# Altium footprint library vitech_semiconductors.PcbLib: 7 footprints
Each footprint in its own frame and in the unit in brackets; x right, y up, seen from the top. Pads: shape width x height; smd on the part's side, far side on the other; paste and mask are expansions set on the pad; w line width, h text height; cw(c..) or ccw(c..) is an arc to the next point about the centre after c.
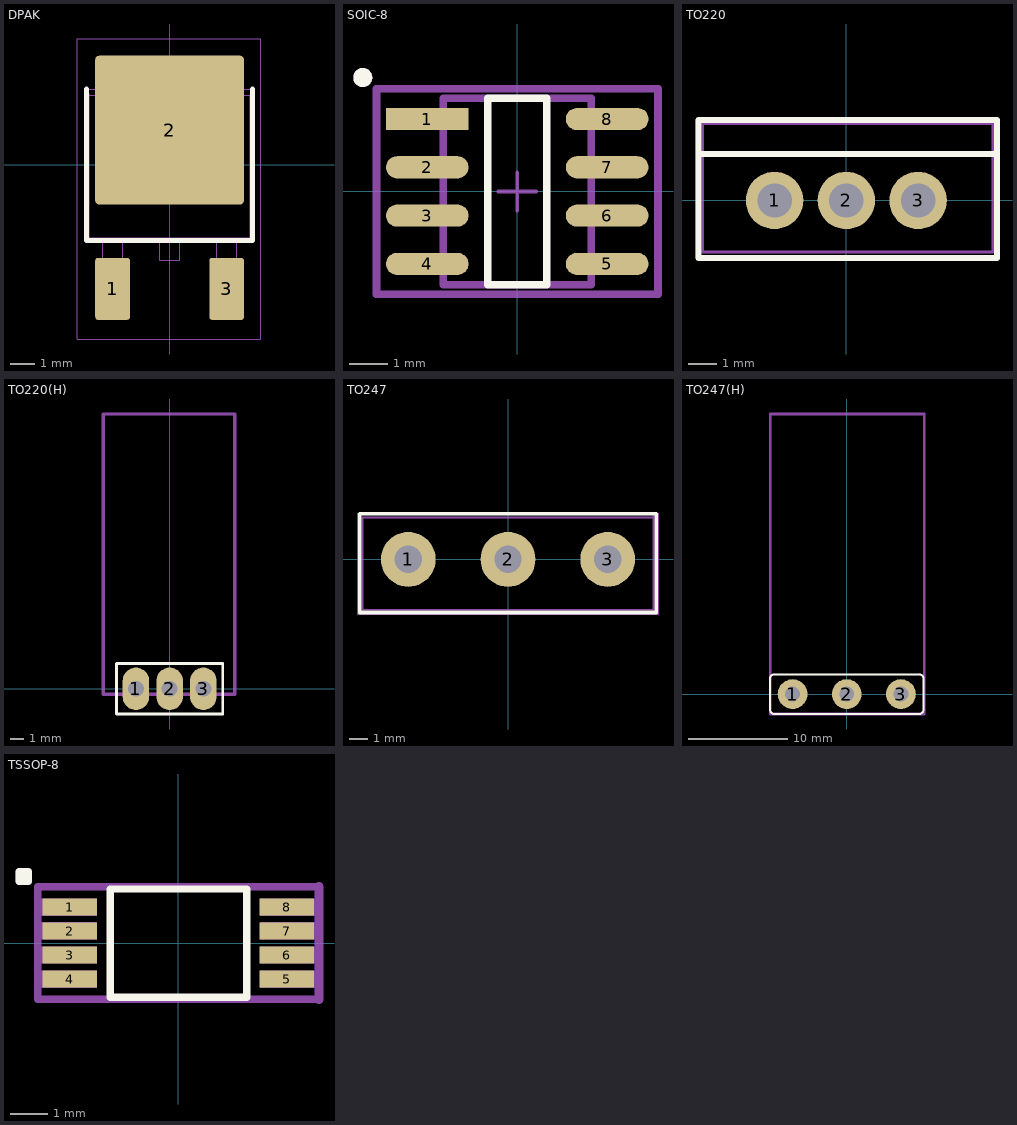
[diagram p0: the footprints below, top view; thin cyan lines are the x and y axes]

## DPAK [mm]
pads (3):
  rrect15% 1.4x2.5 smd mask+0.05: 1(-2.3,-5) 3(2.3,-5)
  rrect5% 6x6 smd paste-2539.97 mask+0.05: 2(0,1.4)
Top Overlay:
  lines w0.2: -3.35,3.05 -3.35,-3.05 3.35,-3.05 3.35,3.05
Top Paste:
  rectangle: 1.575,-1.4 2.725,0.1
  rectangle: 1.575,0.45 2.725,2.35
  rectangle: 0.125,-1.4 1.275,0.1
  rectangle: 0.125,0.45 1.275,2.35
  rectangle: -1.275,-1.4 -0.125,0.1
  rectangle: -1.275,0.45 -0.125,2.35
  rectangle: -2.725,-1.4 -1.575,0.1
  rectangle: -2.725,0.45 -1.575,2.35
  rectangle: 1.575,2.7 2.725,4.2
  rectangle: 0.125,2.7 1.275,4.2
  rectangle: -1.275,2.7 -0.125,4.2
  rectangle: -2.725,2.7 -1.575,4.2
Assembly:
  lines w0.05: -2.7,-3.05 -2.7,-4.25 -2.8,-4.25 -2.8,-5.15 -2.7,-5.15 -2.7,-5.95 -1.9,-5.95 -1.9,-5.15 -1.8,-5.15 -1.8,-4.25 -1.9,-4.25 -1.9,-3.05 ; -2.6,3.05 -2.6,3.4 -2.35,4.2 2.35,4.2 2.6,3.4 2.6,3.05 ; -0.4,-3.05 -0.4,-3.85 0.4,-3.85 0.4,-3.05 ; 1.9,-3.05 1.9,-4.25 1.8,-4.25 1.8,-5.15 1.9,-5.15 1.9,-5.95 2.7,-5.95 2.7,-5.15 2.8,-5.15 2.8,-4.25 2.7,-4.25 2.7,-3.05 ; -3.35,-3.05 -3.25,-2.95 ; -3.35,-3.05 3.35,-3.05 ; -3.35,-3.05 -3.35,3.05 ; -3.35,3.05 -3.25,2.8 ; -3.35,3.05 3.35,3.05 ; -3.25,-2.95 3.25,-2.95 ; -3.25,-2.95 -3.25,2.8 ; -3.25,2.8 3.25,2.8 ; 3.25,-2.95 3.35,-3.05 ; 3.25,-2.95 3.25,2.8 ; 3.25,2.8 3.35,3.05 ; 3.35,-3.05 3.35,3.05
  text "1" at -2.4,-2.6 h0.7
  text "3" at 2.05,-2.6 h0.7
  text "4" at -0.25,1.85 h0.7
Top Assembly:
  text ".Designator" at -1.652,5.5 h0.5
Mechanical 15:
  lines w0.05: -3.725,-7.025 3.675,-7.025 3.675,5.075 -3.725,5.075 -3.725,-7.025
  lines w0.1: -0.5,0 0.5,0 ; 0,-0.5 0,0.5
Mechanical 19:
  text ".Comment" at -1.621,6.338 h0.5
3D body "D-PAK.STEP": height 2.39, standoff 0, extent -3.365,-6.03 3.365,4.38

## SOIC-8 [mm]
pads (8):
  rect 2.174x0.583 smd paste+0 mask+0: 1(-2.366,1.905)
  rrect100% 2.174x0.583 smd paste+0 mask+0: 2(-2.366,0.635) 3(-2.366,-0.635) 4(-2.366,-1.905) 5(2.366,-1.905) 6(2.366,-0.635) 7(2.366,0.635) 8(2.366,1.905)
Top Overlay:
  circle w0.25: c-4.064,2.997 r0.125
  lines w0.2: -0.779,-2.45 -0.779,2.45 0.779,2.45 0.779,-2.45 -0.779,-2.45
Assembly:
  circle w0.25: c-4.064,2.997 r0.125
  lines w0.2: -3.703,-2.7 -3.703,2.7 3.703,2.7 3.703,-2.7 -3.703,-2.7 ; -1.95,-2.45 1.95,-2.45 1.95,2.45 -1.95,2.45 -1.95,-2.45
Top Assembly (Mech6):
  lines w0.2: -3.703,-2.7 -3.703,2.7 3.703,2.7 3.703,-2.7 -3.703,-2.7
Top Component Center:
  lines w0.1: -0.5,0 0.5,0 ; 0,-0.5 0,0.5
Mechanical 17:
  text ".Designator" at -1.943,3.987 h0.5
Mechanical 19:
  text ".Comment" at -1.937,3.301 h0.5
3D body "Trans_Infineon_Technologies_IRF9358PBF_eec.STEP": height 0.25, standoff 0, extent -3.703,-2.7 3.703,2.7

## TO220 [mm]
height 22
pads (3):
  round 2 hole 1.2: 1(-2.5,0) 2(0,0) 3(2.5,0)
Top Overlay:
  lines w0.2: -5.15,1.619 5.247,1.619 ; -5.15,-2 5.247,-2 5.247,2.8 -5.15,2.8 -5.15,-2
Assembly:
  lines w0.1: -5,1.6 5.1,1.6 ; -5.2,-2 5.247,-2 5.247,2.8 -5.2,2.8 -5.2,-2 ; -5,-1.8 -5,2.675 5.1,2.675 5.1,-1.8 -5,-1.8
Mechanical 15:
  lines w0.1: -0.5,0 0.5,0 ; 0,-0.5 0,0.5
Mechanical 17:
  text ".Designator" at -1.866,3.938 h0.5
Mechanical 19:
  text ".Comment" at -1.866,3.288 h0.5
3D body "User Library-TO-220-4.STEP": height 22.06, standoff -6.74, extent -5,-1.8 5.2,2.7

## TO220(H) [mm]
height 22
pads (3):
  oval 2x3.2 hole 1.2: 1(-2.54,0) 2(0,0) 3(2.54,0)
Top Overlay:
  lines w0.2: -4,-1.9 -4,1.9 4,1.9 4,-1.9 -4,-1.9
Assembly:
  lines w0.254: -5,-0.4 4.9,-0.4 4.9,20.7 -5,20.7 -5,-0.4
Mechanical 15:
  lines w0.1: -0.5,0 0.5,0 ; 0,-0.5 0,0.5
Mechanical 17:
  text ".Designator" at -1.766,21.838 h0.5
Mechanical 19:
  text ".Comment" at -1.766,21.188 h0.5
3D body "TO-220-90.STEP": height 2.76, standoff -7.91, extent -4.95,-0.365 4.95,20.665

## TO247 [mm] "3-Lead Plastic TO-247"
height 20
pads (3):
  round 3 hole 1.5: 1(-5.45,0) 2(0,0) 3(5.45,0)
Top Overlay:
  lines w0.2: -8.1,-2.9 8.1,-2.9 8.1,2.5 -8.1,2.5 -8.1,-2.9
Assembly:
  lines w0.1: -7.95,2.3 -7.95,-2.75 7.95,-2.75 7.95,2.35 7.9,2.3 -7.95,2.3 ; -7.95,2.3 -7.95,2.3
Mechanical 15:
  lines w0.1: -8.2,-3 -8.2,2.5 8.2,2.5 8.2,-3 -8.2,-3 ; -0.5,0 0.5,0 -0.5,0 ; 0,-0.5 0,0.5 0,-0.5
Mechanical 17:
  text ".Designator" at -1.466,3.438 h0.5
Mechanical 19:
  text ".Comment" at -1.466,2.788 h0.5
3D body "TO247_3_21.STEP": height 26.95, standoff -2.47, extent -7.95,-2.75 7.95,2.35

## TO247(H) [mm] "3-Lead Plastic TO-247"
height 20
pads (3):
  round 3 hole 1.5: 1(-5.45,0) 2(0,0) 3(5.45,0)
Top Overlay:
  lines w0.2: -7.75,-1.5 ccw(c-7.25,-1.5) -7.25,-2 7.25,-2 ccw(c7.25,-1.5) 7.75,-1.5 7.75,1.5 ccw(c7.25,1.5) 7.25,2 -7.25,2 ccw(c-7.25,1.5) -7.75,1.5 -7.75,-1.5
Mechanical 1:
  lines w0.1: -7.75,-1.5 ccw(c-7.25,-1.5) -7.25,-2 7.25,-2 ccw(c7.25,-1.5) 7.75,-1.5 7.75,1.5 ccw(c7.25,1.5) 7.25,2 -7.25,2 ccw(c-7.25,1.5) -7.75,1.5 -7.75,-1.5
Assembly:
  lines w0.254: -7.7,-2 7.8,-2 7.8,28.2 -7.7,28.2 -7.7,-2
Mechanical 15:
  lines w0.1: -0.5,-0.1 0.5,-0.1 ; -0.5,0 0.5,0 ; 0,-0.6 0,0.4 ; 0,-0.5 0,0.5 ; -7.75,-1.5 ccw(c-7.25,-1.5) -7.25,-2 7.25,-2 ccw(c7.25,-1.5) 7.75,-1.5 7.75,1.5 ccw(c7.25,1.5) 7.25,2 -7.25,2 ccw(c-7.25,1.5) -7.75,1.5 -7.75,-1.5
Mechanical 17:
  text ".Designator" at -1.266,29.138 h0.5
Mechanical 19:
  text ".Comment" at -1.266,28.488 h0.5
3D body "User Library-TO-247H.STEP": height 3.9, standoff -8, extent -7.75,-0.3 7.75,28.1

## TSSOP-8 [mm] "Dual N-Channel Enahncement Mode Power MOSFET"
pads (8):
  rect 1.475x0.45 smd: 1(-2.938,0.975) 2(-2.938,0.325) 3(-2.938,-0.325) 4(-2.938,-0.975) 5(2.938,-0.975) 6(2.938,-0.325) 7(2.938,0.325) 8(2.938,0.975)
Top Overlay:
  lines w0.2: -4.318,1.93 -4.064,1.93 -4.064,1.676 ; -4.318,1.93 -4.064,1.676 ; -4.318,1.93 -4.318,1.676 -4.064,1.676 ; -4.318,1.93 -4.064,1.676 ; -1.85,-1.465 1.85,-1.465 1.85,1.465 -1.85,1.465 -1.85,-1.465
Assembly:
  rectangle: -3.785,0.737 -2.21,1.207
  rectangle: -3.785,0.102 -2.21,0.572
  rectangle: -3.785,-0.559 -2.21,-0.088
  rectangle: -3.785,-1.219 -2.21,-0.749
  rectangle: 2.21,0.737 3.785,1.207
  rectangle: 2.21,0.102 3.785,0.572
  rectangle: 2.21,-0.559 3.785,-0.088
  rectangle: 2.21,-1.219 3.785,-0.749
  lines w0.2: 3.79,1.524 -3.81,1.524 -3.81,-1.524 3.81,-1.524 ; -4.318,1.93 -4.064,1.93 -4.064,1.676 ; -4.318,1.93 -4.064,1.676 ; -4.318,1.93 -4.318,1.676 -4.064,1.676 ; -4.318,1.93 -4.064,1.676
  lines w0.254: 3.81,-1.524 3.81,1.524
Mechanical 17:
  text ".Designator" at -1.366,3.338 h0.5
Mechanical 19:
  text ".Comment" at -1.366,2.688 h0.5
3D body "FS8205A.stp": height 1.2, standoff 0, extent -3.327,-1.465 3.073,1.465